# Altium schematic symbol library Power.SchLib: 6 symbols
Pins are listed as number, name and electrical type; pins without a type are passive.

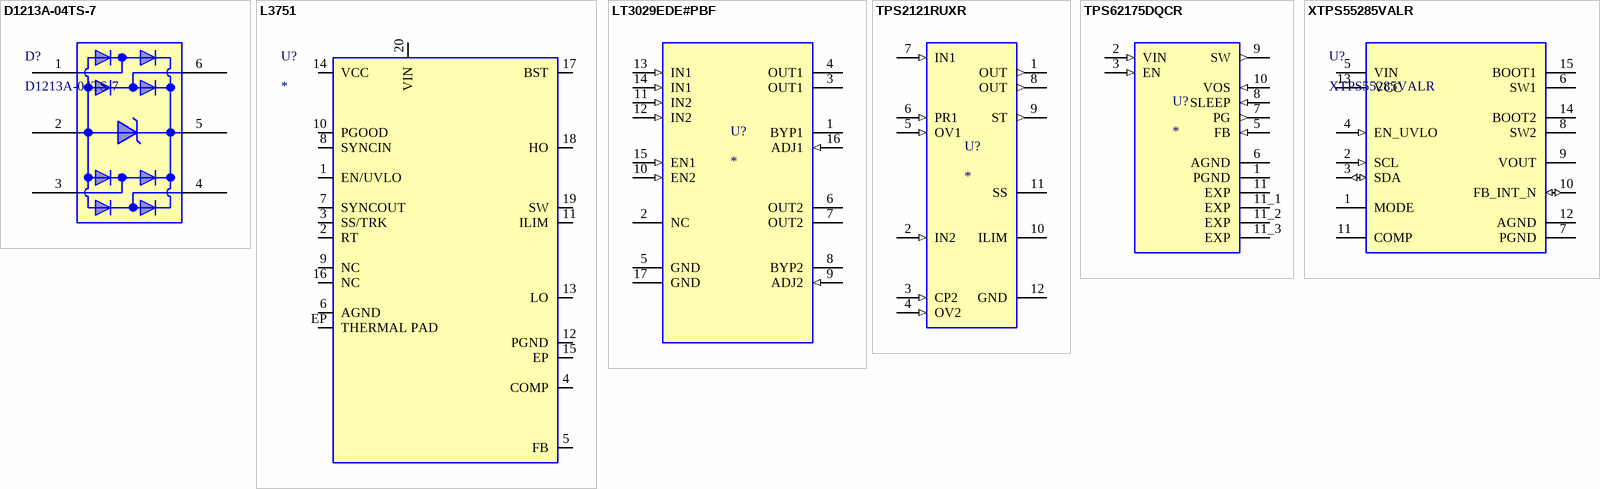
[diagram p0: symbols D1213A-04TS-7 to XTPS55285VALR]

## D1213A-04TS-7
designator D?
Description; Manufacturer_Name: Diodes Inc; Copyright: Copyright (C) 2025 Ultra Librarian. All rights reserved.; Manufacturer_Part_Number: D1213A-04TS-7; RefDes: RefDes; Type: Type
footprint TSOT26_DIO
pins: 1, 2, 3, 4, 5, 6

## L3751
designator U?
WIDE 6 V TO 75 V INPUT VOLTAGE S; Supplier 1: Avnet; Supplier Part Number 1: L3751PUR
pins: 1 EN/UVLO, 2 RT, 3 SS/TRK, 4 COMP, 5 FB, 6 AGND, 7 SYNCOUT, 8 SYNCIN, 9 NC, 10 PGOOD, 11 ILIM, 12 PGND, 13 LO, 14 VCC, 15 EP, 16 NC, 17 BST, 18 HO, 19 SW, 20 VIN, EP THERMAL PAD

## LT3029EDE#PBF
designator U?
Dual 500mA/500mA Low Dropout, Low Noise, Micropower Linear Regulator; MF: Analog Devices; MP: LT3029EDE#PBF; SnapEDA_Link: https://www.snapeda.com/parts/LT3029EDE%23PBF/Analog+Devices/view-part/?ref=snap; Availability: In Stock; Price: None; Package: DFN -16 Analog Devices; Check_prices: https://www.snapeda.com/parts/LT3029EDE%23PBF/Analog+Devices/view-part/?ref=eda; Purchase-URL: https://pricing.snapeda.com/search/part/LT3029EDE#PBF/?ref=eda; Value: *
footprint DFN-17_4x3
pins: 1 BYP1, 2 NC, 3 OUT1 (power), 4 OUT1 (power), 5 GND, 6 OUT2 (power), 7 OUT2 (power), 8 BYP2, 9 ADJ2 (in), 10 EN2 (in), 11 IN2 (in), 12 IN2 (in), 13 IN1 (in), 14 IN1 (in), 15 EN1 (in), 16 ADJ1 (in), 17 GND

## TPS2121RUXR
designator U?
2.7-V&nbsp;to 22-V, 56-mâ„¦, 4.5-A, power mux with seamless switchover; MF: Texas Instruments; MP: TPS2121RUXR; Package: VQFN-HR-12 Texas Instruments; Price: None; Check_prices: https://www.snapeda.com/parts/TPS2121RUXR/Texas+Instruments/view-part/?ref=eda; Value: *; SnapEDA_Link: https://www.snapeda.com/parts/TPS2121RUXR/Texas+Instruments/view-part/?ref=snap; Availability: In Stock; Purchase-URL: https://pricing.snapeda.com/search?q=TPS2121RUXR&ref=eda
footprint IC_TPS2121RUXR
pins: 1 OUT (out), 2 IN2 (in), 3 CP2 (in), 4 OV2 (in), 5 OV1 (in), 6 PR1 (in), 7 IN1 (in), 8 OUT (out), 9 ST (out), 10 ILIM, 11 SS, 12 GND (power)

## TPS62175DQCR
designator U?
28V, 0.5A Step-Down Converter with SNOOZE Mode 10-WSON -40 to 85; MP: TPS62175DQCR; MF: Texas Instruments; Price: None; Purchase-URL: https://pricing.snapeda.com/search/part/TPS62175DQCR/?ref=eda; Package: WSON-10 Texas Instruments; Check_prices: https://www.snapeda.com/parts/TPS62175DQCR/Texas%20Instruments/view-part/494000/?ref=eda; Value: *; Availability: Good; SnapEDA_Link: https://www.snapeda.com/parts/TPS62175DQCR/Texas%20Instruments/view-part/494000/?ref=snap
footprint WSON-10_2X3
pins: 1 PGND (power), 2 VIN (in), 3 EN (in), 5 FB (in), 6 AGND (power), 7 PG (out), 8 SLEEP (in), 9 SW (out), 10 VOS (in), 11 EXP (power), 11_1 EXP (power), 11_2 EXP (power), 11_3 EXP (power)

## XTPS55285VALR
designator U?
22V 8A buck-boost converter with IÂ²C interface 15-WQFN-HR -40 to 125; Manufacturer_Name: Texas Instruments; TYPE: TYPE; RefDes: RefDes; Copyright: Copyright (C) 2026 Ultra Librarian. All rights reserved.; Manufacturer_Part_Number: XTPS55285VALR; Datasheet: https://www.ti.com/lit/gpn/tps55285
footprint VAL0015A-MFG
pins: 1 MODE, 2 SCL (in), 3 SDA (io), 4 EN_UVLO (in), 5 VIN (power), 6 SW1 (power), 7 PGND (power), 8 SW2 (power), 9 VOUT, 10 FB_INT_N (io), 11 COMP, 12 AGND (power), 13 VCC (power), 14 BOOT2 (power), 15 BOOT1 (power)